# EAGLE library part FH12-22S-0.5SH_55_ (library FH12-22S-0.5SH_55_)
Hirose FH12 Series 0.5mm Pitch 22 Way 1 Row Right Angle SMT Female FPC Connector, Gold Plated Contacts Source: Datasheet <https://www.hirose.com/product/download/?distributor=digikey&type=2d&lang=en&num=FH12-22S-0.5SH(55)>
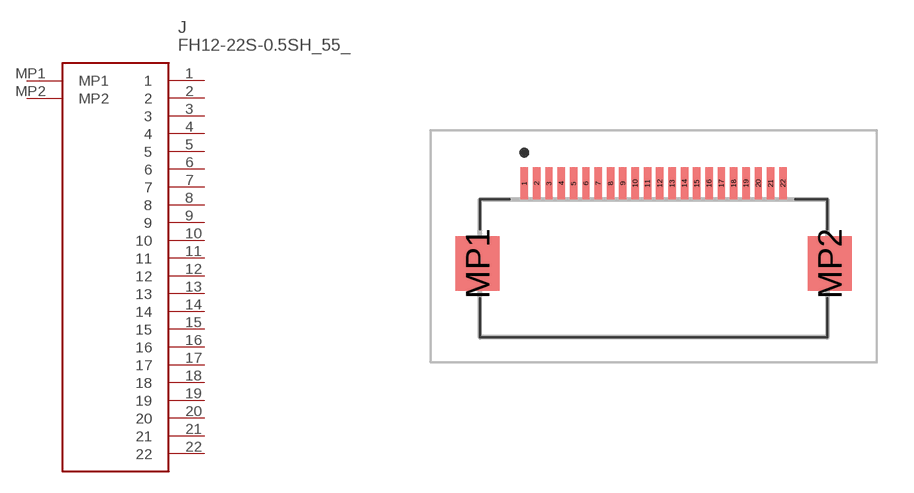
[diagram p0: symbol with the pads of FH1222S05SH55; footprint FH1222S05SH55]

Designator prefix J

## FH12-22S-0.5SH_55_ (Description: Hirose FH12 Series 0.5mm Pitch 22 Way 1 Row Right Angle SMT Female FPC Connector, Gold Plated Contacts; Height: 2.2mm; Manufacturer_Name: Hirose; Manufacturer_Part_Number: FH12-22S-0.5SH(55); Mouser_Part_Number: 798-FH12-22S-0.5SH55; Mouser_Price-Stock: https://www.mouser.co.uk/ProductDetail/Hirose-Connector/FH12-22S-05SH55/?qs=Ux3WWAnHpjDjN9JNAugKTA%3D%3D)  [FH1222S05SH55]
1  1
2  2
3  3
4  4
5  5
6  6
7  7
8  8
9  9
10  10
11  11
12  12
13  13
14  14
15  15
16  16
17  17
18  18
19  19
20  20
21  21
22  22
MP1  MP1
MP2  MP2

## Footprint FH1222S05SH55 (pad centres in mm)
FH12-22S-0.5SH(55)-1
smd 0.3 x 1.3: 1 -5.25,3.25; 2 -4.75,3.25; 3 -4.25,3.25; 4 -3.75,3.25; 5 -3.25,3.25; 6 -2.75,3.25; 7 -2.25,3.25; 8 -1.75,3.25; 9 -1.25,3.25; 10 -0.75,3.25; 11 -0.25,3.25; 12 0.25,3.25; 13 0.75,3.25; 14 1.25,3.25; 15 1.75,3.25; 16 2.25,3.25; 17 2.75,3.25; 18 3.25,3.25; 19 3.75,3.25; 20 4.25,3.25; 21 4.75,3.25; 22 5.25,3.25
smd 1.8 x 2.2: MP1 -7.15,0; MP2 7.15,0